# EAGLE library part TLC080DGN (library op-amp)
BiMOS OP-AMP - PowerPAD Package Single Supply, External Shutdown
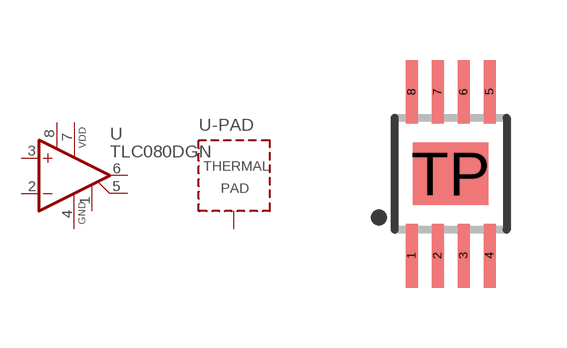
[diagram p6: symbol with the pads of MSOP08-POWERPAD; footprint MSOP08-POWERPAD]

Designator prefix U; gates A=OPAMP_PV P=PWR_VDDGND NULL=_OFFNULL2 -SHDN=_SHDN -PAD=THERMAL-PAD

## TLC080DGN  [MSOP08-POWERPAD]
1  NULL:NULL1  pas
2  A:-IN  in
3  A:+IN  in
4  P:GND  pwr
5  NULL:NULL2  pas
6  A:OUT  out
7  P:VDD  pwr
8  -SHDN:SHDN  pas
TP  -PAD:TP  pwr

## Footprint MSOP08-POWERPAD (pad centres in mm)
MSOP 8 - PowerPAD DGN package, Texas Instruments
smd 0.3 x 1.6: 1 -0.975,-2.05; 2 -0.325,-2.05; 3 0.325,-2.05; 4 0.975,-2.05; 5 0.975,2.05; 6 0.325,2.05; 7 -0.325,2.05; 8 -0.975,2.05
smd 1.89 x 1.57: TP 0,0